# Altium footprint library MURATA_DLW21H.PcbLib: 1 footprints
Each footprint in its own frame and in the unit in brackets; x right, y up, seen from the top. Pads: shape width x height; smd on the part's side, far side on the other; paste and mask are expansions set on the pad; w line width, h text height; cw(c..) or ccw(c..) is an arc to the next point about the centre after c.
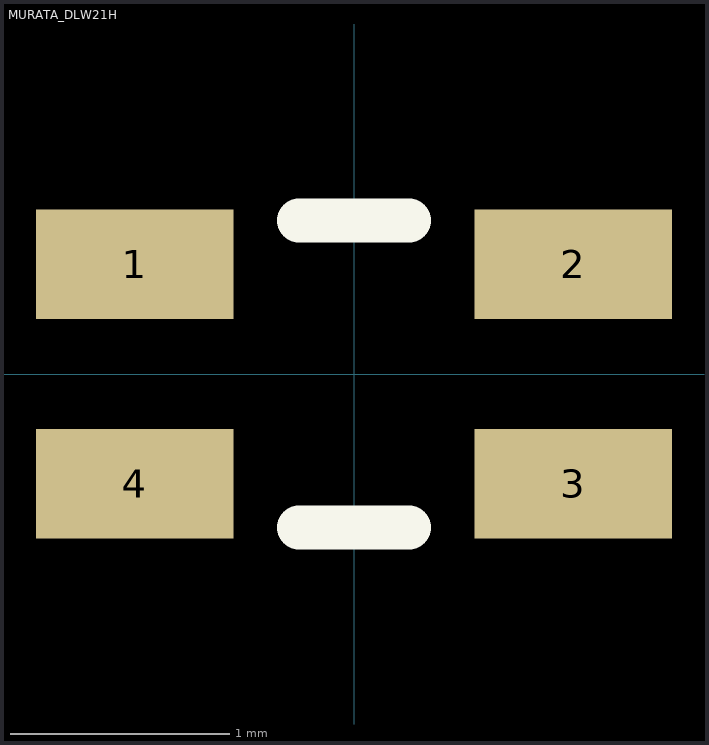
[diagram p0: the footprint, top view; thin cyan lines are the x and y axes]

## MURATA_DLW21H [mm] "Murata DLW21H series CMC"
pads (4):
  rect 0.9x0.5 smd: 1(-1,0.5) 2(1,0.5) 3(1,-0.5) 4(-1,-0.5)
Top Overlay:
  lines w0.2: -0.25,-0.7 0.25,-0.7 ; -0.25,0.7 0.25,0.7
3D body "IND_DLW21H_0805_MUR.step": height 1, standoff 0, extent -1.1,-0.7 1.1,0.7